# Altium footprint library TEST_POINT_CONN.PcbLib: 1 footprints
Each footprint in its own frame and in the unit in brackets; x right, y up, seen from the top. Pads: shape width x height; smd on the part's side, far side on the other; paste and mask are expansions set on the pad; w line width, h text height; cw(c..) or ccw(c..) is an arc to the next point about the centre after c.
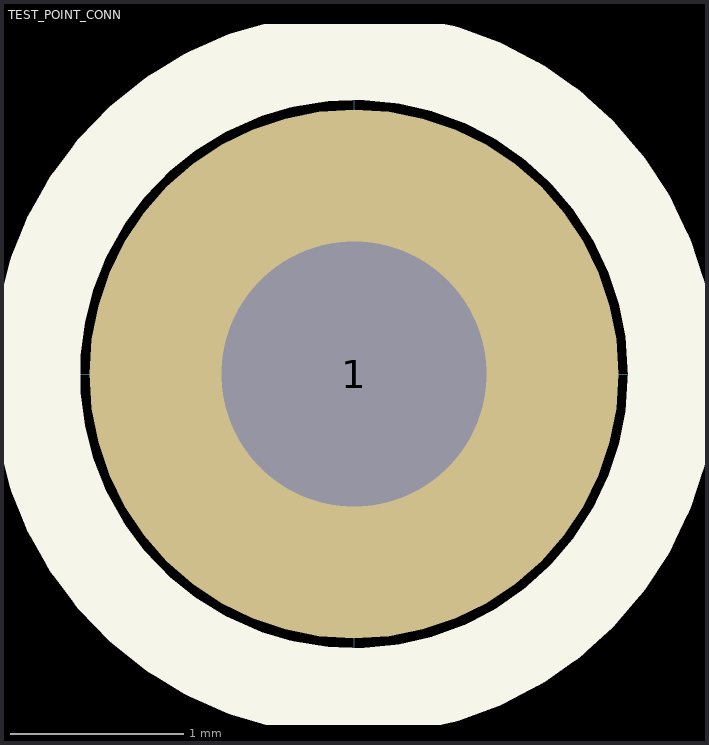
[diagram p0: the footprint, top view; thin cyan lines are the x and y axes]

## TEST_POINT_CONN [mil]
pads (1):
  round 120 / inner round 90 / far side round 90 hole 60 unplated paste+4 mask+4: 1(0,0)
Top Overlay:
  circle w20: c0,0 r72.11
Bottom Overlay:
  circle w20: c0,0 r72.11